# Altium footprint library 6 Pin 100 mil Vertical Header - Through Hole.PcbLib: 1 footprints
Each footprint in its own frame and in the unit in brackets; x right, y up, seen from the top. Pads: shape width x height; smd on the part's side, far side on the other; paste and mask are expansions set on the pad; w line width, h text height; cw(c..) or ccw(c..) is an arc to the next point about the centre after c.
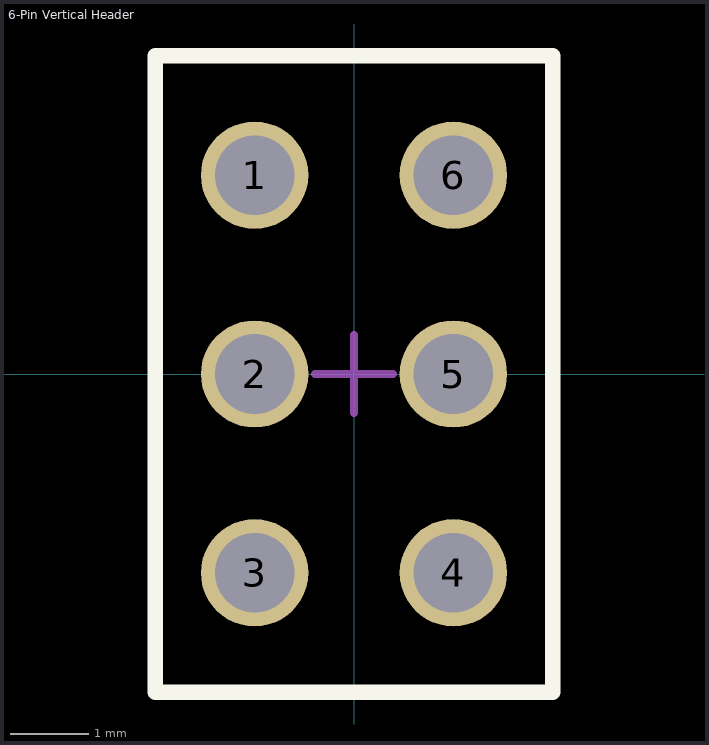
[diagram p0: the footprint, top view; thin cyan lines are the x and y axes]

## 6-Pin Vertical Header [mil]
pads (6):
  round 54 hole 40: 1(-50,100) 2(-50,0) 3(-50,-100) 4(50,-100) 5(50,0) 6(50,100)
Top Overlay:
  lines w7.87: -100,-160 -100,160 100,160 100,-160 -100,-160
Mechanical 15:
  lines w3.94: -19.69,0 19.68,0 ; 0,-19.68 0,19.68
3D body "_ _ _C032LFBN-RC.STEP": height 337.96, standoff -122.67, extent -100,-159.69 100,160